# EAGLE library part LPC1342FHN33 (library lpc1xxx-v6)
LPC1342 72 MHz 32-bit ARM Cortex-M3 based microcontroller featuring a high level of integration and low power consumption. 16 kB Flash, 4 kB SRAM, USB Device MarcVl - Datasheet available on www.nxp.com
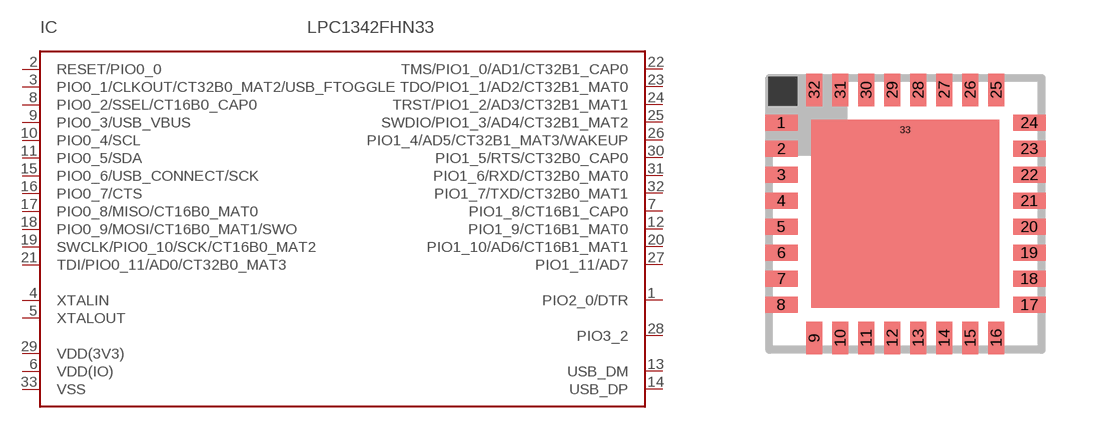
[diagram p13: symbol with the pads of HVQFN33-7X7; footprint HVQFN33-7X7]

Designator prefix IC

## LPC1342FHN33  [HVQFN33-7X7]
1  PIO2_0/DTR
2  RESET/PIO0_0
3  PIO0_1/CLKOUT/CT32B0_MAT2/USB_FTOGGLE
4  XTALIN  in
5  XTALOUT  out
6  VDD(IO)  pwr
7  PIO1_8/CT16B1_CAP0
8  PIO0_2/SSEL/CT16B0_CAP0
9  PIO0_3/USB_VBUS
10  PIO0_4/SCL
11  PIO0_5/SDA
12  PIO1_9/CT16B1_MAT0
13  USB_DM
14  USB_DP
15  PIO0_6/USB_CONNECT/SCK
16  PIO0_7/CTS
17  PIO0_8/MISO/CT16B0_MAT0
18  PIO0_9/MOSI/CT16B0_MAT1/SWO
19  SWCLK/PIO0_10/SCK/CT16B0_MAT2
20  PIO1_10/AD6/CT16B1_MAT1
21  TDI/PIO0_11/AD0/CT32B0_MAT3
22  TMS/PIO1_0/AD1/CT32B1_CAP0
23  TDO/PIO1_1/AD2/CT32B1_MAT0
24  TRST/PIO1_2/AD3/CT32B1_MAT1
25  SWDIO/PIO1_3/AD4/CT32B1_MAT2
26  PIO1_4/AD5/CT32B1_MAT3/WAKEUP
27  PIO1_11/AD7
28  PIO3_2
29  VDD(3V3)  pwr
30  PIO1_5/RTS/CT32B0_CAP0
31  PIO1_6/RXD/CT32B0_MAT0
32  PIO1_7/TXD/CT32B0_MAT1
33  VSS  pwr

## Footprint HVQFN33-7X7 (pad centres in mm)
HVQFN33 Plastic thermal enhanced very thin quad flat package; 33 terminals; body 7x7x0.85 mm;
smd 0.813 x 0.406: 1 -3.1,2.275; 2 -3.1,1.625; 3 -3.1,0.975; 4 -3.1,0.325; 5 -3.1,-0.325; 6 -3.1,-0.975; 7 -3.1,-1.625; 8 -3.1,-2.275; 17 3.1,-2.275; 18 3.1,-1.625; 19 3.1,-0.975; 20 3.1,-0.325; 21 3.1,0.325; 22 3.1,0.975; 23 3.1,1.625; 24 3.1,2.275
smd 0.406 x 0.813: 9 -2.275,-3.1; 10 -1.625,-3.1; 11 -0.975,-3.1; 12 -0.325,-3.1; 13 0.325,-3.1; 14 0.975,-3.1; 15 1.625,-3.1; 16 2.275,-3.1; 25 2.275,3.1; 26 1.625,3.1; 27 0.975,3.1; 28 0.325,3.1; 29 -0.325,3.1; 30 -0.975,3.1; 31 -1.625,3.1; 32 -2.275,3.1
smd 2.54 x 0.254: 33 0,2.1